# Altium footprint library PcbLib1.PcbLib: 4 footprints
Each footprint in its own frame and in the unit in brackets; x right, y up, seen from the top. Pads: shape width x height; smd on the part's side, far side on the other; paste and mask are expansions set on the pad; w line width, h text height; cw(c..) or ccw(c..) is an arc to the next point about the centre after c.
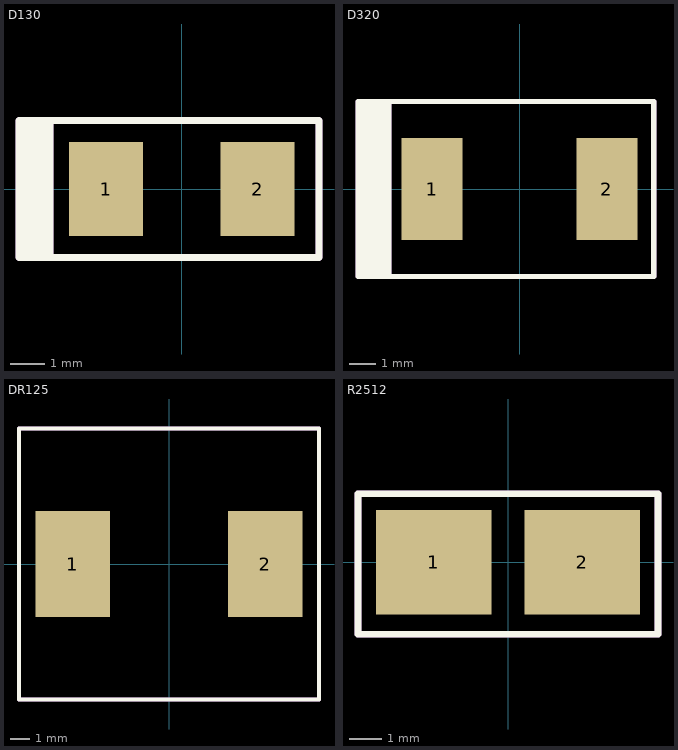
[diagram p0: the footprints below, top view; thin cyan lines are the x and y axes]

## D130 [mm]
pads (2):
  rect 2.159x2.743 smd: 1(-2.21,0) 2(2.21,0)
Top Overlay:
  region: -3.75,2 -4.75,2 -4.75,-2 -3.75,-2
  lines w0.2: -4.75,-2 4,-2 4,0.182 4,2 -4.75,2 -4.75,-2
Mechanical 29:
  region: -3.75,2 -4.75,2 -4.75,-2 -3.75,-2
  lines w0.2: -4.75,-2 4,-2 4,0.182 4,2 -4.75,2 -4.75,-2
  text "'.Designator" at -3.2,-0.875 h1.2
3D body "User Library-DO-214AA SMB.STEP": height 2.32, standoff 0.01, extent -2.7,-1.8 2.7,1.8

## D320 [mm]
pads (2):
  rect 2.25x3.79 smd: 1(-3.25,0) 2(3.25,0)
Top Overlay:
  region: -4.75,3.25 -6,3.25 -6,-3.25 -4.75,-3.25
  lines w0.2: -6,-3.25 4.98,-3.25 4.98,0 4.98,3.25 -6,3.25 -6,-3.25
Mechanical 29:
  region: -4.75,3.25 -6,3.25 -6,-3.25 -4.75,-3.25
  lines w0.2: -6,-3.25 4.98,-3.25 4.98,0 4.98,3.25 -6,3.25 -6,-3.25
  text "'.Designator" at -3.3,-0.65 h1.2
3D body "User Library-DO-214AB SMC.STEP": height 2.32, standoff 0.01, extent -3.975,-2.95 3.975,2.95

## DR125 [mm]
pads (2):
  rect 3.85x5.5 smd: 1(-4.975,0) 2(4.975,0)
Top Overlay:
  lines w0.2: -7.75,-7 7.75,-7 7.75,7 -7.75,7 -7.75,-7
Mechanical 29:
  lines w0.2: -7.75,-7 7.75,-7 7.75,7 -7.75,7 -7.75,-7
  text "'.Designator" at -4.95,-1.85 h1.2
3D body "User Library-dr125.STEP": height 8.01, standoff 0.01, extent -6.25,-6.25 6.25,6.25

## R2512 [mm]
pads (2):
  rect 3.55x3.2 smd: 1(-2.275,0) 2(2.275,0)
Top Overlay:
  lines w0.2: -4.6,-2.2 -4.6,2.1 4.6,2.1 4.6,-2.2 -4.6,-2.2
Mechanical 29:
  lines w0.2: -4.6,-2.2 -4.6,2.1 4.6,2.1 4.6,-2.2 -4.6,-2.2
  text "'.Designator" at -3.95,-1.1 h1.2
3D body "CircuitWorks-RESISTOR 2512.STEP": height 0.58, standoff -0.03, extent -3.175,-1.63 3.175,1.63